# EAGLE library part MCP4901-E/SN (library aarons)
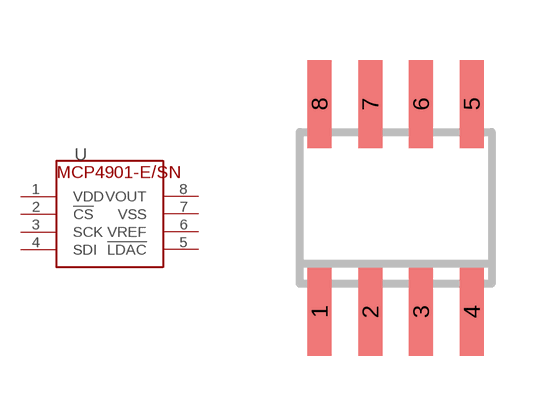
[diagram p5: symbol with the pads of SOIC8; footprint SOIC8]

Designator prefix U

## MCP4901-E/SN  [SOIC8]
1  VDD
2  !CS
3  SCK
4  SDI
5  !LDAC
6  VREF
7  VSS
8  VOUT

## Footprint SOIC8 (pad centres in mm)
Small Outline IC
smd 0.6 x 2.2: 1 -1.905,-2.6; 2 -0.635,-2.6; 3 0.635,-2.6; 4 1.905,-2.6; 5 1.905,2.6; 6 0.635,2.6; 7 -0.635,2.6; 8 -1.905,2.6